# Altium footprint library SKQEACA010.PcbLib: 1 footprints
Each footprint in its own frame and in the unit in brackets; x right, y up, seen from the top. Pads: shape width x height; smd on the part's side, far side on the other; paste and mask are expansions set on the pad; w line width, h text height; cw(c..) or ccw(c..) is an arc to the next point about the centre after c.
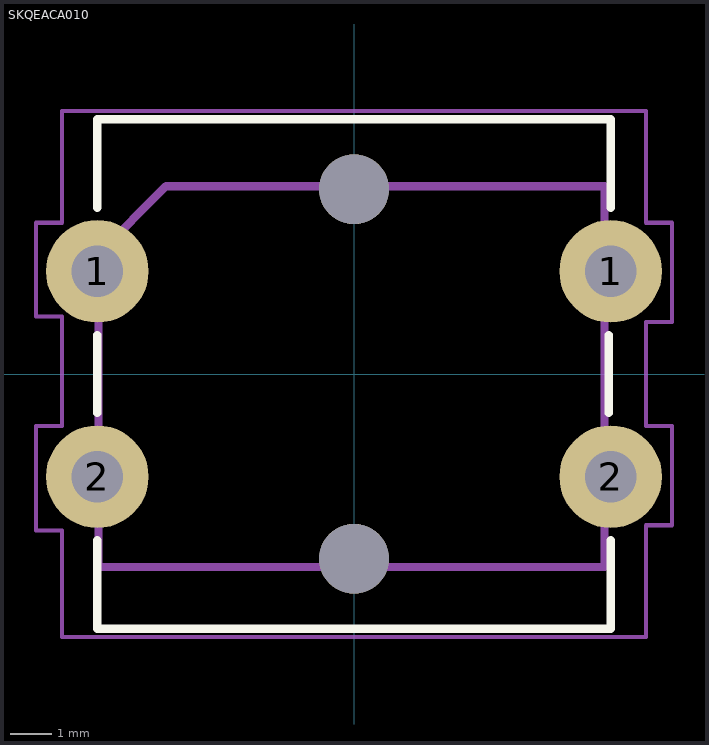
[diagram p0: the footprint, top view; thin cyan lines are the x and y axes]

## SKQEACA010 [mm]
pads (6):
  round 2.5 hole 1.25: 1(-6.25,2.5) 1(6.25,2.5) 2(-6.25,-2.5) 2(6.25,-2.5)
  round 1.7 hole 1.7 unplated: ""(0,-4.5) ""(0,4.5)
Top Overlay:
  lines w0.2: -6.25,-4.05 -6.25,-6.2 6.25,-6.2 6.25,-4.05 ; -6.25,-0.95 -6.25,0.95 ; -6.25,4.05 -6.25,6.2 6.25,6.2 6.25,4.05 ; 6.2,-0.95 6.2,0.95
Mechanical 3:
  lines w0.2: -6.223,-4.699 -6.223,2.921 -4.572,4.572 6.096,4.572 6.096,-4.699 -6.223,-4.699
Mechanical 7:
  lines w0.1: -7.747,-3.81 -7.112,-3.81 -7.112,-6.4 7.112,-6.4 7.112,-3.683 7.747,-3.683 7.747,-1.27 7.112,-1.27 7.112,1.27 7.747,1.27 7.747,3.683 7.112,3.683 7.112,6.4 -7.112,6.4 -7.112,3.683 -7.747,3.683 -7.747,1.397 -7.112,1.397 -7.112,-1.27 -7.747,-1.27 -7.747,-3.81
Mechanical 9:
  text ".Designator" at -8.255,0 h1.52
3D body "SKQEAC.STEP": height 7.31, standoff -3.49, extent -7,-6 7,6
3D body: height 7.3, standoff -3.5, extent -7.747,-6.4 7.747,6.35